# Altium footprint library PCB2.PcbLib: 23 footprints (part 1 of 2)
Each footprint in its own frame and in the unit in brackets; x right, y up, seen from the top. Pads: shape width x height; smd on the part's side, far side on the other; paste and mask are expansions set on the pad; w line width, h text height; cw(c..) or ccw(c..) is an arc to the next point about the centre after c.
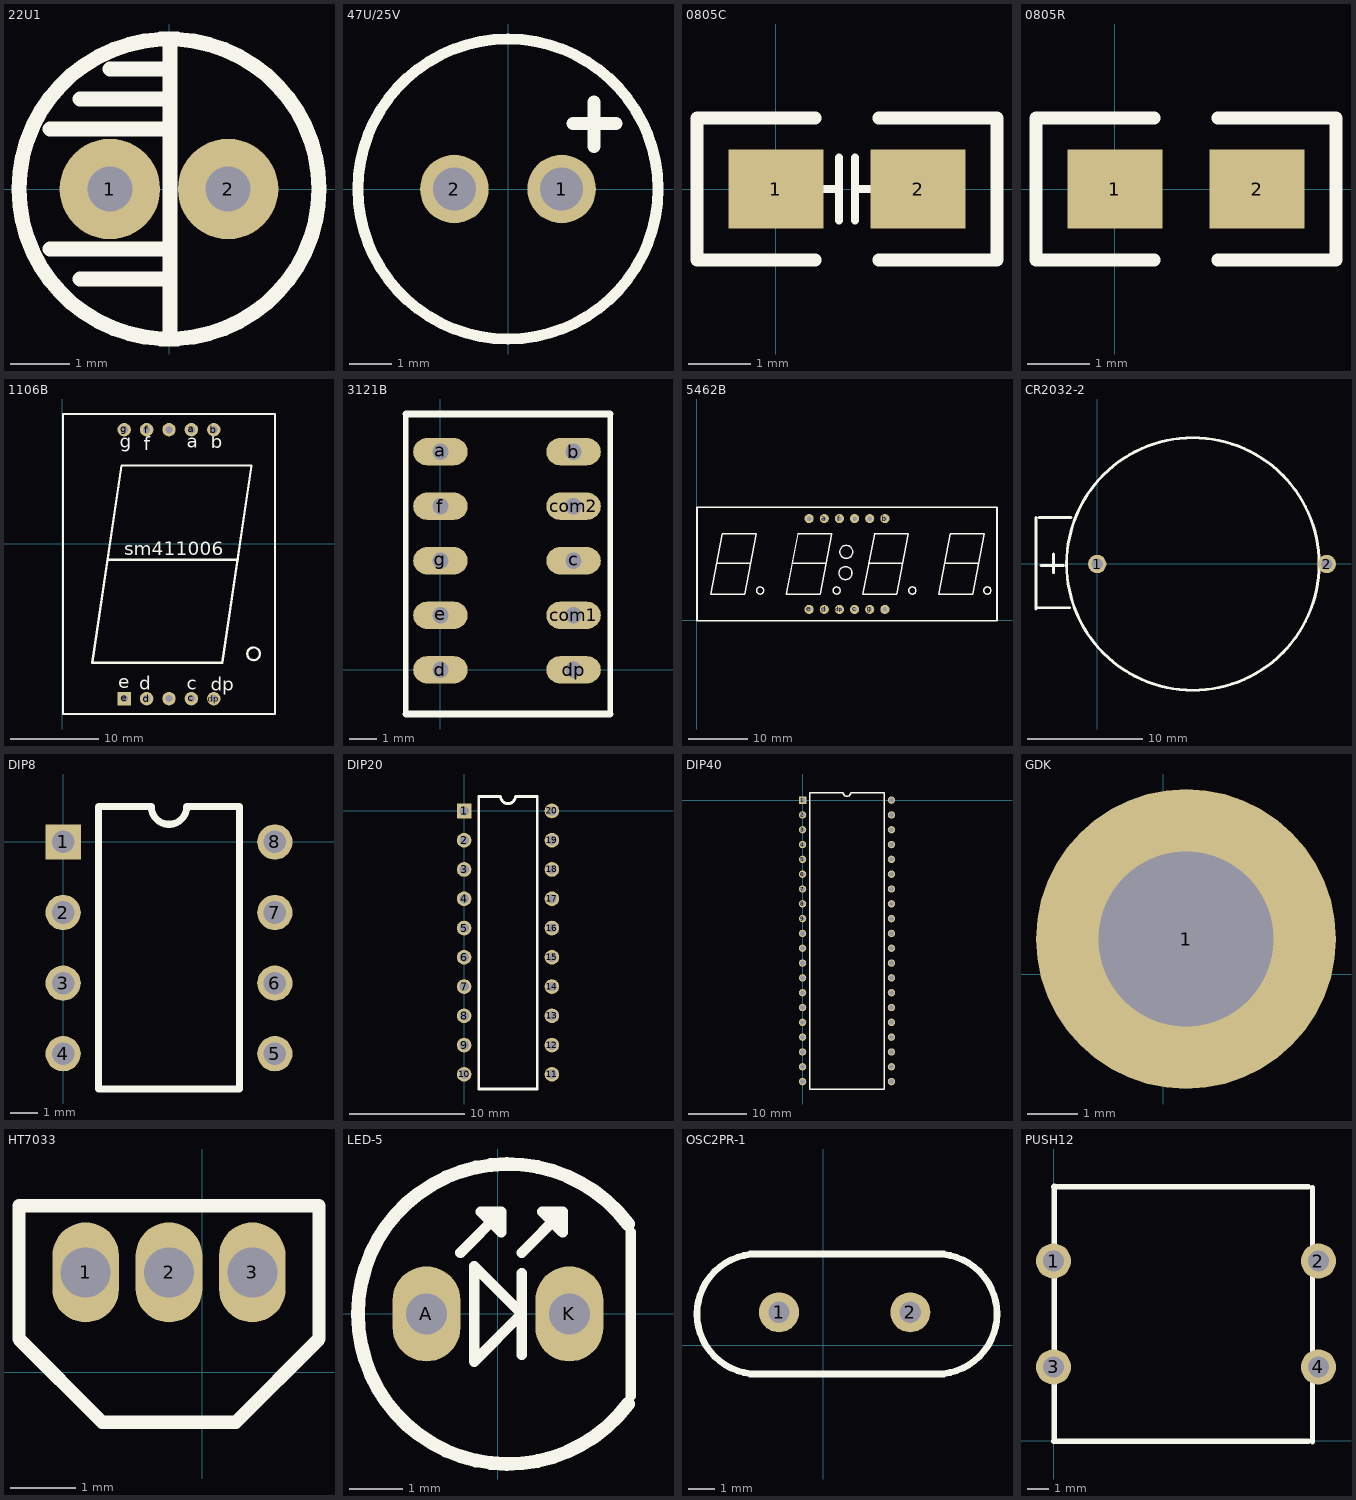
[diagram p0: the footprints below, top view; thin cyan lines are the x and y axes]

## 22U1 [mm]
pads (2):
  round 1.7 hole 0.762: 1(-1,0) 2(1,0)
TopOverlay:
  circle w0.254: c0,0 r2.54
  lines w0.254: -2.016,-1.016 0.016,-1.016 ; -2.016,1.016 0.016,1.016 ; -1.508,-1.524 0.016,-1.524 ; -1.508,1.524 0.016,1.524 ; -1,2.032 0.016,2.032 ; 0.016,-2.54 0.016,2.54

## 47U/25V [mm]
pads (2):
  round 1.6 hole 1: 1(1.25,0) 2(-1.25,0)
TopOverlay:
  circle w0.254: c0,0 r3.5
  lines w0.305: 1.516,1.524 2.516,1.524 ; 2.008,0.992 2.008,2.032

## 0805C [mil]
pads (2):
  rect 60x50 smd: 1(0,0) 2(90,0)
TopOverlay:
  lines w5: 30,0 40,0 ; 40,-20 40,20 ; 50,-20 50,20 ; 50,0 60,0
  lines w8: 25,-45 -50,-45 -50,45 25,45 ; 65,-45 140,-45 140,45 65,45

## 0805R [mil]
pads (2):
  rect 60x50 smd: 1(0,0) 2(90,0)
TopOverlay:
  lines w8: 25,-45 -50,-45 -50,45 25,45 ; 65,-45 140,-45 140,45 65,45

## 1106B [mil]
pads (10):
  round 60 hole 32: a(575.2,510.04) b(675.2,510.04) c(575.2,-690.04) com1(475.2,510.04) com2(475.2,-690.04) d(375.2,-690.04) dp(675.2,-690.04) f(375.2,510.04) g(275.2,510.04)
  rect 60x60 hole 32: e(275.2,-690.04)
TopOverlay:
  circle w10: c852.76,-490.04 r28.28
  lines w10: 202.76,-70.04 782.76,-70.04 ; 475.2,579.96 2.76,579.96 ; 2.76,579.96 2.76,-758.62 947.65,-758.62 ; 2.76,579.96 947.65,579.96 ; 947.65,-758.62 947.65,579.96 ; 947.64,-758.62 947.64,579.96 ; 132.76,-530.04 262.76,349.96 842.76,349.96 712.76,-530.04 132.76,-530.04
  text "sm411006" at 275.33,-49.52 h60
  text "d" at 343.33,-651.52 h60
  text "c" at 553.33,-649.52 h60
  text "dp" at 661.33,-655.52 h60
  text "b" at 661.33,426.48 h60
  text "a" at 555.33,428.48 h60
  text "f" at 363.33,418.48 h60
  text "g" at 255.33,430.48 h60
  text "e" at 249.33,-643.52 h60

## 3121B [mm]
pads (10):
  oval 2x1 hole 0.6: a(0.005,8) b(4.885,8) c(4.885,4) com1(4.885,2) com2(4.885,6) d(0.005,0) dp(4.885,0) e(0.005,2) f(0.005,6) g(0.005,4)
TopOverlay:
  lines w0.2: -1.265,-1.619 -1.265,9.381 ; 6.228,-1.619 6.228,9.381
  lines w0.254: -1.265,-1.619 6.228,-1.619 ; -1.265,9.381 6.228,9.381

## 5462B [mil]
pads (12):
  round 60 hole 30: a(840.2,670) b(1240.2,670) c(1040.2,70) com1(740.2,670) com2(1040.2,670) com3(1140.2,670) com4(1240.2,70) d(840.2,70) dp(940.2,70) e(740.2,70) f(940.2,670) g(1140.2,70)
TopOverlay:
  circle w10: c980.2,310 r43.01
  circle w10: c985.2,450 r43.01
  circle w10: c416.58,195 r23.62
  circle w10: c921.58,195 r23.62
  circle w10: c1421.58,195 r23.62
  circle w10: c1916.58,195 r23.62
  lines w10: 135.87,375 350.2,375 ; 631.94,375 850.2,375 ; 1135.87,375 1355.2,375 ; 1635.87,375 1855.2,375 ; 0.05,-4.02 1980.36,-4.02 1980.36,744.02 0.05,744.02 0.05,-4.02 ; 90.2,170 166.75,570 390.2,570 313.66,170 90.2,170 ; 590.2,170 666.75,570 890.2,570 813.66,170 590.2,170 ; 1095.2,170 1171.75,570 1395.2,570 1318.66,170 1095.2,170 ; 1595.2,170 1671.75,570 1895.2,570 1818.66,170 1595.2,170

## CR2032-2 [mm]
pads (2):
  round 1.6 hole 1: 1(0,-0.003) 2(20,-0.003)
TopOverlay:
  circle w0.254: c8.332,-0.003 r11
  lines w0.254: -5.334,-3.94 -5.334,4.06 ; -5.207,-3.813 -2.407,-3.813 ; -5.086,4.061 -2.286,4.061 ; -4.912,-0.13 -2.921,-0.13 ; -3.81,-0.765 -3.81,0.861

## DIP8 [mil]
pads (8):
  rect 50x50 hole 32: 1(0,0)
  round 50 hole 32: 2(0,-100) 3(0,-200) 4(0,-300) 5(300,-300) 6(300,-200) 7(300,-100) 8(300,0)
TopOverlay:
  lines w10: 50,-350 250,-350 250,50 175,50 cw(c150,50) 125,50 50,50 50,-350

## DIP20 [mil]
pads (20):
  rect 50x50 hole 32: 1(0,0)
  round 50 hole 32: 2(0,-100) 3(0,-200) 4(0,-300) 5(0,-400) 6(0,-500) 7(0,-600) 8(0,-700) 9(0,-800) 10(0,-900) 11(300,-900) 12(300,-800) 13(300,-700) 14(300,-600) 15(300,-500) 16(300,-400) 17(300,-300) 18(300,-200) 19(300,-100) 20(300,0)
TopOverlay:
  lines w10: 50,-950 250,-950 250,50 175,50 cw(c150,50) 125,50 50,50 50,-950

## DIP40 [mil]
pads (40):
  rect 50x50 hole 32: 1(0,0)
  round 50 hole 32: 2(0,-100) 3(0,-200) 4(0,-300) 5(0,-400) 6(0,-500) 7(0,-600) 8(0,-700) 9(0,-800) 10(0,-900) 11(0,-1000) 12(0,-1100) 13(0,-1200) 14(0,-1300) 15(0,-1400) 16(0,-1500) 17(0,-1600) 18(0,-1700) 19(0,-1800) 20(0,-1900) 21(600,-1900) 22(600,-1800) 23(600,-1700) 24(600,-1600) 25(600,-1500) 26(600,-1400) 27(600,-1300) 28(600,-1200) 29(600,-1100) 30(600,-1000) 31(600,-900) 32(600,-800) 33(600,-700) 34(600,-600) 35(600,-500) 36(600,-400) 37(600,-300) 38(600,-200) 39(600,-100) 40(600,0)
TopOverlay:
  lines w10: 50,-1950 50,50 275,50 ccw(c300,50) 325,50 550,50 550,-1950 50,-1950

## GDK [mm]
pads (1):
  round 6 hole 3.5: 1(0.452,0.7)

## HT7033 [mil]
pads (3):
  oval 40x60 hole 30: 1(-70,60) 2(-20,60) 3(30,60)
TopOverlay:
  lines w8: -110,20 -110,100 70,100 70,20 20,-30 -60,-30 -110,20

## LED-5 [mil]
pads (2):
  oval 50x70 hole 30: A(-52.46,0) K(52.54,0)
TopOverlay:
  lines w7.78: -27.46,45 2.54,75 ; 17.54,-30 17.54,30 ; 17.54,45 47.54,75 ; 97.54,-60.15 97.54,60 ; 2.54,75 -12.46,75 2.54,60 2.54,75 ; 47.54,75 32.54,75 47.54,60 47.54,75 ; -17.46,-35 17.54,0 -17.46,35 -17.46,-35
  lines w10: 95.63,-66.22 cw(c7.44,-0.07) 95.63,66.07

## OSC2PR-1 [mil]
pads (2):
  round 60 hole 32: 1(-66.72,49.28) 2(130.28,49.28)
TopOverlay:
  lines w10: -109.72,-43.22 180.28,-43.22 ; -109.72,136.78 180.28,136.78 ; -99.72,-43.22 cw(c-99.72,46.78) -99.72,136.78 ; 170.28,-43.22 ccw(c170.28,46.78) 170.28,136.78

## PUSH12 [mil]
pads (4):
  round 65 hole 39.37: 1(-0.86,333.43) 2(491.27,333.43) 3(-0.86,136.57) 4(491.27,136.57)
TopOverlay:
  lines w8: -2.86,108.43 -0.86,108.43
  lines w10: -0.86,-1.22 472.65,-1.22 ; -0.86,471.22 472.65,471.22 ; 0.2,0 0.2,472.44 ; 480.2,-2.44 480.2,470